# EAGLE library part MEGA8L-DEV (library ATMEGA8L)
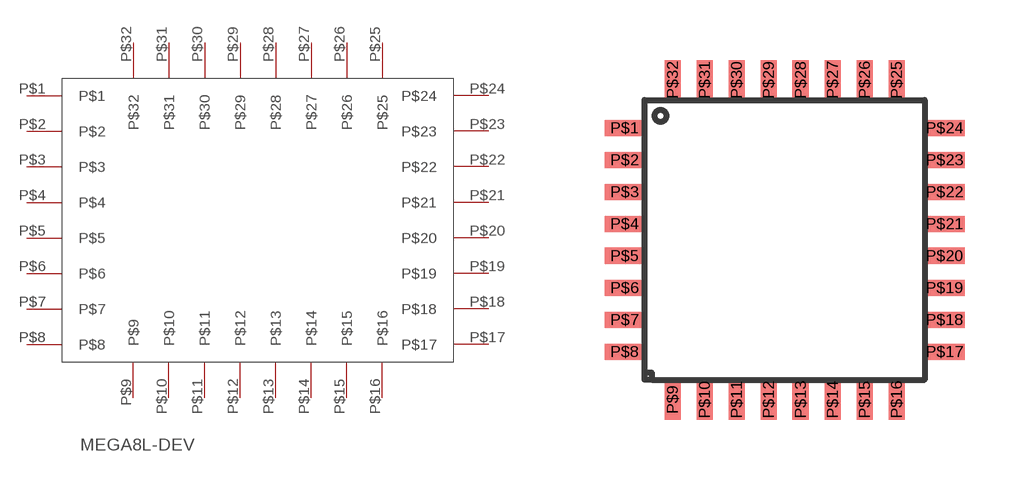
[diagram p0: symbol with the pads of TQFP-MEGA8L; footprint TQFP-MEGA8L]

Designator prefix -

## MEGA8L-DEV  [TQFP-MEGA8L]
P$1  P$1
P$2  P$2
P$3  P$3
P$4  P$4
P$5  P$5
P$6  P$6
P$7  P$7
P$8  P$8
P$9  P$9
P$10  P$10
P$11  P$11
P$12  P$12
P$13  P$13
P$14  P$14
P$15  P$15
P$16  P$16
P$17  P$17
P$18  P$18
P$19  P$19
P$20  P$20
P$21  P$21
P$22  P$22
P$23  P$23
P$24  P$24
P$25  P$25
P$26  P$26
P$27  P$27
P$28  P$28
P$29  P$29
P$30  P$30
P$31  P$31
P$32  P$32

## Footprint TQFP-MEGA8L (pad centres in mm)
smd 1 x 0.4: P$1 -0.5,6.3; P$2 -0.5,5.5; P$3 -0.5,4.7; P$4 -0.5,3.9; P$5 -0.5,3.1; P$6 -0.5,2.3; P$7 -0.5,1.5; P$8 -0.5,0.7; P$17 7.5,0.7; P$18 7.5,1.5; P$19 7.5,2.3; P$20 7.5,3.1; P$21 7.5,3.9; P$22 7.5,4.7; P$23 7.5,5.5; P$24 7.5,6.3
smd 0.4 x 1: P$9 0.7,-0.5; P$10 1.5,-0.5; P$11 2.3,-0.5; P$12 3.1,-0.5; P$13 3.9,-0.5; P$14 4.7,-0.5; P$15 5.5,-0.5; P$16 6.3,-0.5; P$25 6.3,7.5; P$26 5.5,7.5; P$27 4.7,7.5; P$28 3.9,7.5; P$29 3.1,7.5; P$30 2.3,7.5; P$31 1.5,7.5; P$32 0.7,7.5